# Altium integrated library FPGA Generic.IntLib: 1651 symbols (part 14 of 20)
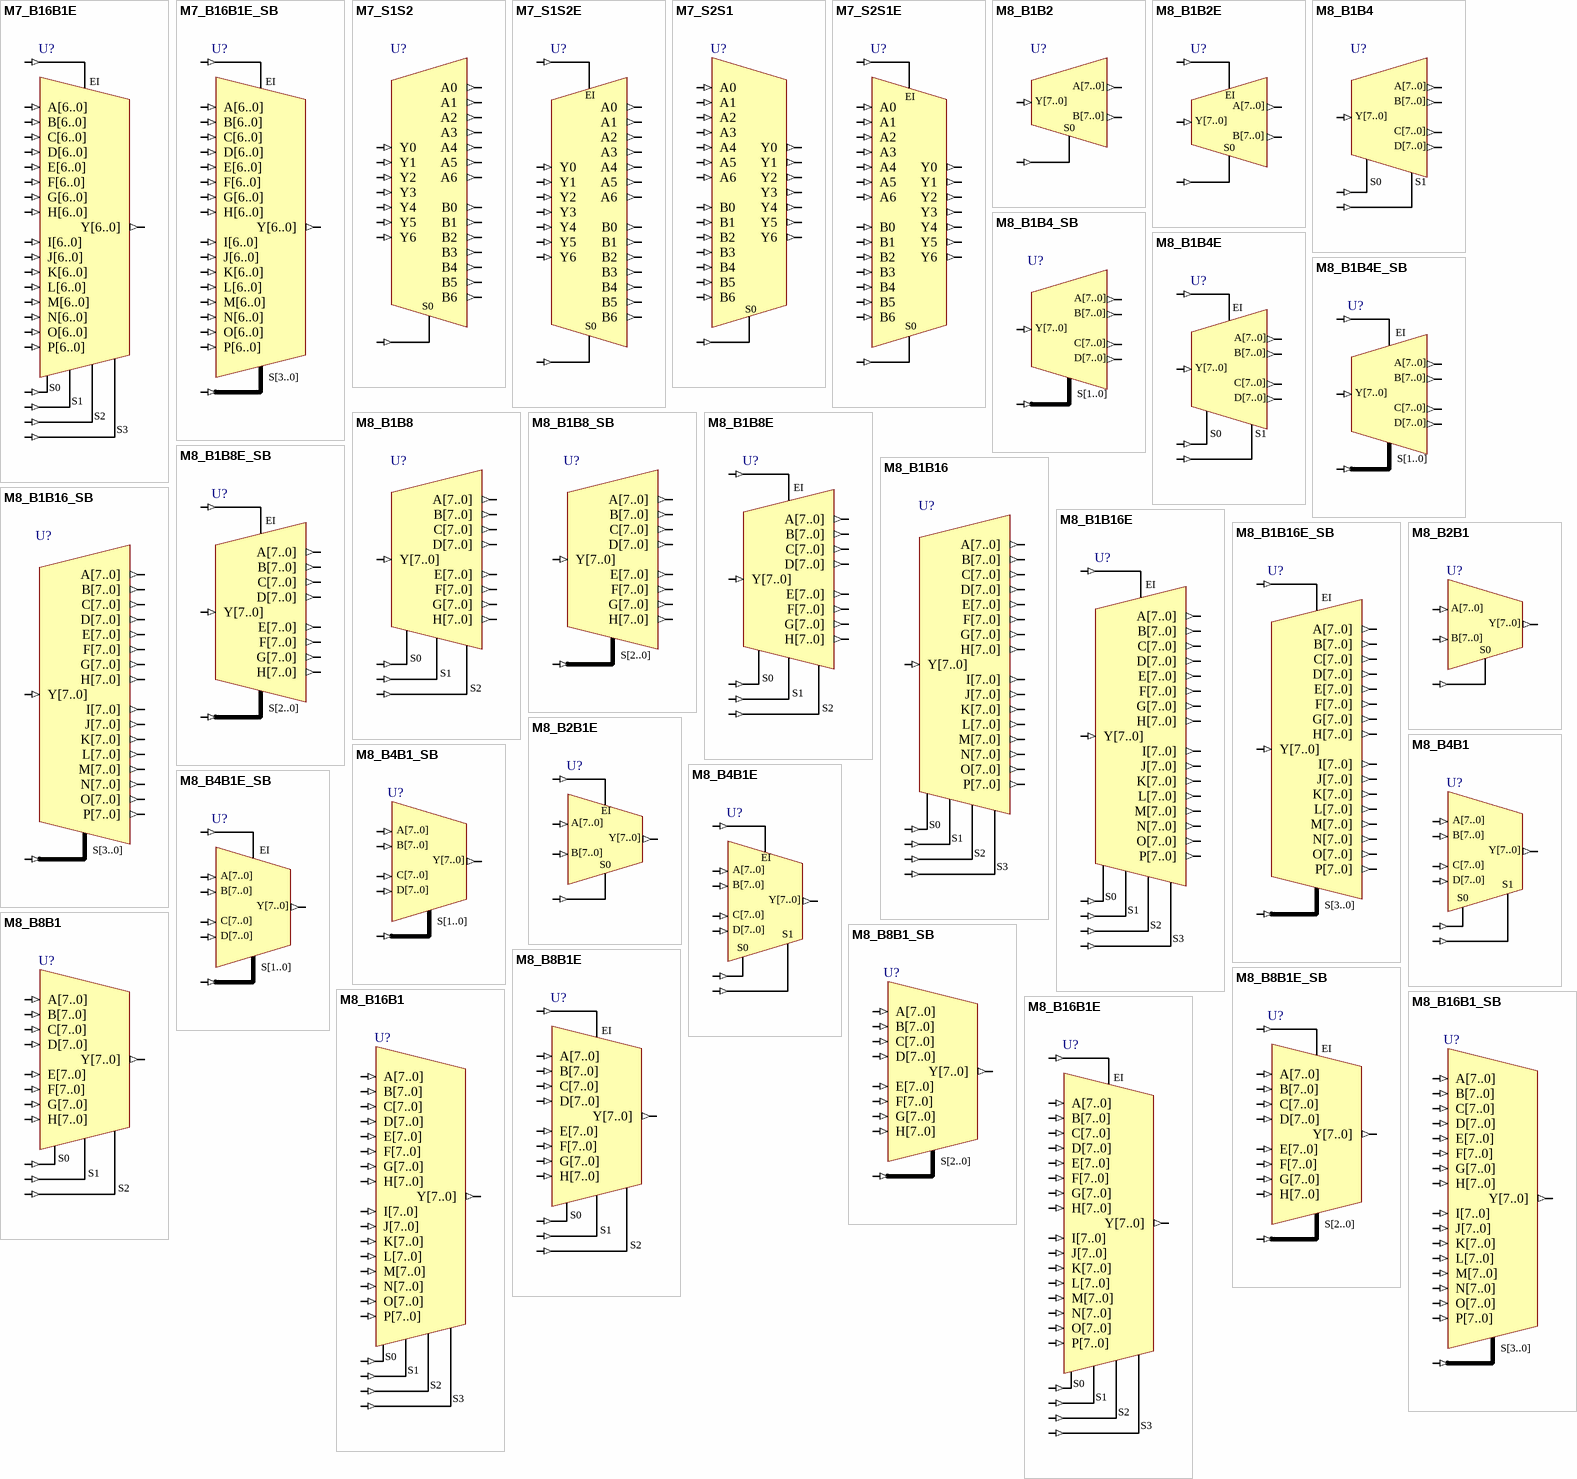
[diagram p56: symbols M7_B16B1E to M8_B16B1E]

## M8_B1B2E
designator U?
1x8-Bit Bus to 2x8-Bit Bus Multiplexer (Demultiplex)  With Enable; SubClass: B1Bn; Enable: High; PortSize: 8; PortStyle: Bus Version; ArchiveName: GENERIC; VHDLIB_SIM: GENERIC_LIB; Published: 29-Jan-2004; Publisher: Altium Limited; LastRevisionNo: 1.00.00; HelpURL: CR0118 FPGA Generic Library Guide.pdf#page=331; ComponentLink1URL: CR0137 FPGA Multiplexer Resource Usage.pdf#page=289; ComponentLink1Description: Core &Resource Usage; FunctionalClass: Multiplexer
pins: A[7..0] (out), B[7..0] (out), EI (in), S0 (in), Y[7..0] (in)

## M8_B1B4
designator U?
1x8-Bit Bus to 4x8-Bit Bus Multiplexer (Demultiplex); SubClass: B1Bn; PortSize: 8; PortStyle: Bus Version; ArchiveName: GENERIC; VHDLIB_SIM: GENERIC_LIB; Published: 29-Jan-2004; Publisher: Altium Limited; LastRevisionNo: 1.00.00; HelpURL: CR0118 FPGA Generic Library Guide.pdf#page=335; ComponentLink1URL: CR0137 FPGA Multiplexer Resource Usage.pdf#page=290; ComponentLink1Description: Core &Resource Usage; FunctionalClass: Multiplexer
pins: A[7..0] (out), B[7..0] (out), C[7..0] (out), D[7..0] (out), S0 (in), S1 (in), Y[7..0] (in)

## M8_B1B4_SB
designator U?
1x8-Bit Bus to 4x8-Bit Bus Multiplexer (Demultiplex) With Bus Version Select; SubClass: B1Bn; BusBusSelect: True; PortSize: 8; ArchiveName: GENERIC; VHDLIB_SIM: GENERIC_LIB; Published: 31-May-2004; Publisher: Altium Limited; LastRevisionNo: 1.00.00; HelpURL: CR0118 FPGA Generic Library Guide.pdf#page=335; ComponentLink1URL: CR0137 FPGA Multiplexer Resource Usage.pdf#page=291; ComponentLink1Description: Core &Resource Usage; FunctionalClass: Multiplexer; PortStyle: Bus Version
pins: A[7..0] (out), B[7..0] (out), C[7..0] (out), D[7..0] (out), S[1..0] (in), Y[7..0] (in)

## M8_B1B4E
designator U?
1x8-Bit Bus to 4x8-Bit Bus Multiplexer (Demultiplex)  With Enable; SubClass: B1Bn; Enable: High; PortSize: 8; PortStyle: Bus Version; ArchiveName: GENERIC; VHDLIB_SIM: GENERIC_LIB; Published: 29-Jan-2004; Publisher: Altium Limited; LastRevisionNo: 1.00.00; HelpURL: CR0118 FPGA Generic Library Guide.pdf#page=339; ComponentLink1URL: CR0137 FPGA Multiplexer Resource Usage.pdf#page=292; ComponentLink1Description: Core &Resource Usage; FunctionalClass: Multiplexer
pins: A[7..0] (out), B[7..0] (out), C[7..0] (out), D[7..0] (out), EI (in), S0 (in), S1 (in), Y[7..0] (in)

## M8_B1B4E_SB
designator U?
1x8-Bit Bus to 4x8-Bit Bus Multiplexer (Demultiplex)  With Enable With Bus Version Select; SubClass: B1Bn; Enable: High; BusBusSelect: True; PortSize: 8; ArchiveName: GENERIC; VHDLIB_SIM: GENERIC_LIB; Published: 31-May-2004; Publisher: Altium Limited; LastRevisionNo: 1.00.00; HelpURL: CR0118 FPGA Generic Library Guide.pdf#page=339; ComponentLink1URL: CR0137 FPGA Multiplexer Resource Usage.pdf#page=293; ComponentLink1Description: Core &Resource Usage; FunctionalClass: Multiplexer; PortStyle: Bus Version
pins: A[7..0] (out), B[7..0] (out), C[7..0] (out), D[7..0] (out), EI (in), S[1..0] (in), Y[7..0] (in)

## M8_B1B8
designator U?
1x8-Bit Bus to 8x8-Bit Bus Multiplexer (Demultiplex); SubClass: B1Bn; PortSize: 8; PortStyle: Bus Version; ArchiveName: GENERIC; VHDLIB_SIM: GENERIC_LIB; Published: 29-Jan-2004; Publisher: Altium Limited; LastRevisionNo: 1.00.00; HelpURL: CR0118 FPGA Generic Library Guide.pdf#page=345; ComponentLink1URL: CR0137 FPGA Multiplexer Resource Usage.pdf#page=294; ComponentLink1Description: Core &Resource Usage; FunctionalClass: Multiplexer
pins: A[7..0] (out), B[7..0] (out), C[7..0] (out), D[7..0] (out), E[7..0] (out), F[7..0] (out), G[7..0] (out), H[7..0] (out), S0 (in), S1 (in), S2 (in), Y[7..0] (in)

## M8_B1B8_SB
designator U?
1x8-Bit Bus to 8x8-Bit Bus Multiplexer (Demultiplex) With Bus Version Select; SubClass: B1Bn; BusBusSelect: True; PortSize: 8; ArchiveName: GENERIC; VHDLIB_SIM: GENERIC_LIB; Published: 31-May-2004; Publisher: Altium Limited; LastRevisionNo: 1.00.00; HelpURL: CR0118 FPGA Generic Library Guide.pdf#page=345; ComponentLink1URL: CR0137 FPGA Multiplexer Resource Usage.pdf#page=295; ComponentLink1Description: Core &Resource Usage; FunctionalClass: Multiplexer; PortStyle: Bus Version
pins: A[7..0] (out), B[7..0] (out), C[7..0] (out), D[7..0] (out), E[7..0] (out), F[7..0] (out), G[7..0] (out), H[7..0] (out), S[2..0] (in), Y[7..0] (in)

## M8_B1B8E
designator U?
1x8-Bit Bus to 8x8-Bit Bus Multiplexer (Demultiplex)  With Enable; SubClass: B1Bn; Enable: High; PortSize: 8; PortStyle: Bus Version; ArchiveName: GENERIC; VHDLIB_SIM: GENERIC_LIB; Published: 29-Jan-2004; Publisher: Altium Limited; LastRevisionNo: 1.00.00; HelpURL: CR0118 FPGA Generic Library Guide.pdf#page=350; ComponentLink1URL: CR0137 FPGA Multiplexer Resource Usage.pdf#page=296; ComponentLink1Description: Core &Resource Usage; FunctionalClass: Multiplexer
pins: A[7..0] (out), B[7..0] (out), C[7..0] (out), D[7..0] (out), E[7..0] (out), EI (in), F[7..0] (out), G[7..0] (out), H[7..0] (out), S0 (in), S1 (in), S2 (in), Y[7..0] (in)

## M8_B1B8E_SB
designator U?
1x8-Bit Bus to 8x8-Bit Bus Multiplexer (Demultiplex)  With Enable With Bus Version Select; SubClass: B1Bn; Enable: High; BusBusSelect: True; PortSize: 8; ArchiveName: GENERIC; VHDLIB_SIM: GENERIC_LIB; Published: 31-May-2004; Publisher: Altium Limited; LastRevisionNo: 1.00.00; HelpURL: CR0118 FPGA Generic Library Guide.pdf#page=350; ComponentLink1URL: CR0137 FPGA Multiplexer Resource Usage.pdf#page=297; ComponentLink1Description: Core &Resource Usage; FunctionalClass: Multiplexer; PortStyle: Bus Version
pins: A[7..0] (out), B[7..0] (out), C[7..0] (out), D[7..0] (out), E[7..0] (out), EI (in), F[7..0] (out), G[7..0] (out), H[7..0] (out), S[2..0] (in), Y[7..0] (in)

## M8_B1B16
designator U?
1x8-Bit Bus to 16x8-Bit Bus Multiplexer (Demultiplex); SubClass: B1Bn; PortSize: 8; PortStyle: Bus Version; ArchiveName: GENERIC; VHDLIB_SIM: GENERIC_LIB; Published: 29-Jan-2004; Publisher: Altium Limited; LastRevisionNo: 1.00.00; HelpURL: CR0118 FPGA Generic Library Guide.pdf#page=355; ComponentLink1URL: CR0137 FPGA Multiplexer Resource Usage.pdf#page=298; ComponentLink1Description: Core &Resource Usage; FunctionalClass: Multiplexer
pins: A[7..0] (out), B[7..0] (out), C[7..0] (out), D[7..0] (out), E[7..0] (out), F[7..0] (out), G[7..0] (out), H[7..0] (out), I[7..0] (out), J[7..0] (out), K[7..0] (out), L[7..0] (out), M[7..0] (out), N[7..0] (out), O[7..0] (out), P[7..0] (out), S0 (in), S1 (in), S2 (in), S3 (in), Y[7..0] (in)

## M8_B1B16_SB
designator U?
1x8-Bit Bus to 16x8-Bit Bus Multiplexer (Demultiplex) With Bus Version Select; SubClass: B1Bn; BusBusSelect: True; PortSize: 8; ArchiveName: GENERIC; VHDLIB_SIM: GENERIC_LIB; Published: 29-Jan-2004; Publisher: Altium Limited; LastRevisionNo: 1.00.00; HelpURL: CR0118 FPGA Generic Library Guide.pdf#page=355; ComponentLink1URL: CR0137 FPGA Multiplexer Resource Usage.pdf#page=299; ComponentLink1Description: Core &Resource Usage; FunctionalClass: Multiplexer; PortStyle: Bus Version
pins: A[7..0] (out), B[7..0] (out), C[7..0] (out), D[7..0] (out), E[7..0] (out), F[7..0] (out), G[7..0] (out), H[7..0] (out), I[7..0] (out), J[7..0] (out), K[7..0] (out), L[7..0] (out), M[7..0] (out), N[7..0] (out), O[7..0] (out), P[7..0] (out), S[3..0] (in), Y[7..0] (in)

## M8_B1B16E
designator U?
1x8-Bit Bus to 16x8-Bit Bus Multiplexer (Demultiplex)  With Enable; SubClass: B1Bn; Enable: High; PortSize: 8; PortStyle: Bus Version; ArchiveName: GENERIC; VHDLIB_SIM: GENERIC_LIB; Published: 29-Jan-2004; Publisher: Altium Limited; LastRevisionNo: 1.00.00; HelpURL: CR0118 FPGA Generic Library Guide.pdf#page=360; ComponentLink1URL: CR0137 FPGA Multiplexer Resource Usage.pdf#page=300; ComponentLink1Description: Core &Resource Usage; FunctionalClass: Multiplexer
pins: A[7..0] (out), B[7..0] (out), C[7..0] (out), D[7..0] (out), E[7..0] (out), EI (in), F[7..0] (out), G[7..0] (out), H[7..0] (out), I[7..0] (out), J[7..0] (out), K[7..0] (out), L[7..0] (out), M[7..0] (out), N[7..0] (out), O[7..0] (out), P[7..0] (out), S0 (in), S1 (in), S2 (in), S3 (in), Y[7..0] (in)

## M8_B1B16E_SB
designator U?
1x8-Bit Bus to 16x8-Bit Bus Multiplexer (Demultiplex) With Enable and Bus Version Select; SubClass: B1Bn; Enable: High; BusBusSelect: True; PortSize: 8; ArchiveName: GENERIC; VHDLIB_SIM: GENERIC_LIB; Published: 29-Jan-2004; Publisher: Altium Limited; LastRevisionNo: 1.00.00; HelpURL: CR0118 FPGA Generic Library Guide.pdf#page=360; ComponentLink1URL: CR0137 FPGA Multiplexer Resource Usage.pdf#page=301; ComponentLink1Description: Core &Resource Usage; FunctionalClass: Multiplexer; PortStyle: Bus Version
pins: A[7..0] (out), B[7..0] (out), C[7..0] (out), D[7..0] (out), E[7..0] (out), EI (in), F[7..0] (out), G[7..0] (out), H[7..0] (out), I[7..0] (out), J[7..0] (out), K[7..0] (out), L[7..0] (out), M[7..0] (out), N[7..0] (out), O[7..0] (out), P[7..0] (out), S[3..0] (in), Y[7..0] (in)

## M8_B2B1
designator U?
2x8-Bit Bus to 1x8-Bit Bus Multiplexer; SubClass: BnB1; PortSize: 8; PortStyle: Bus Version; ArchiveName: GENERIC; VHDLIB_SIM: GENERIC_LIB; Published: 29-Jan-2004; Publisher: Altium Limited; LastRevisionNo: 1.00.00; HelpURL: CR0118 FPGA Generic Library Guide.pdf#page=364; ComponentLink1URL: CR0137 FPGA Multiplexer Resource Usage.pdf#page=302; ComponentLink1Description: Core &Resource Usage; FunctionalClass: Multiplexer
pins: A[7..0] (in), B[7..0] (in), S0 (in), Y[7..0] (out)

## M8_B2B1E
designator U?
2x8-Bit Bus to 1x8-Bit Bus Multiplexer With Enable; SubClass: BnB1; Enable: High; PortSize: 8; PortStyle: Bus Version; ArchiveName: GENERIC; VHDLIB_SIM: GENERIC_LIB; Published: 29-Jan-2004; Publisher: Altium Limited; LastRevisionNo: 1.00.00; HelpURL: CR0118 FPGA Generic Library Guide.pdf#page=366; ComponentLink1URL: CR0137 FPGA Multiplexer Resource Usage.pdf#page=303; ComponentLink1Description: Core &Resource Usage; FunctionalClass: Multiplexer
pins: A[7..0] (in), B[7..0] (in), EI (in), S0 (in), Y[7..0] (out)

## M8_B4B1
designator U?
4x8-Bit Bus to 1x8-Bit Bus Multiplexer; SubClass: BnB1; PortSize: 8; PortStyle: Bus Version; ArchiveName: GENERIC; VHDLIB_SIM: GENERIC_LIB; Published: 29-Jan-2004; Publisher: Altium Limited; LastRevisionNo: 1.00.00; HelpURL: CR0118 FPGA Generic Library Guide.pdf#page=370; ComponentLink1URL: CR0137 FPGA Multiplexer Resource Usage.pdf#page=304; ComponentLink1Description: Core &Resource Usage; FunctionalClass: Multiplexer
pins: A[7..0] (in), B[7..0] (in), C[7..0] (in), D[7..0] (in), S0 (in), S1 (in), Y[7..0] (out)

## M8_B4B1_SB
designator U?
4x8-Bit Bus to 1x8-Bit Bus Multiplexer With Bus Version Select; SubClass: BnB1; BusBusSelect: True; PortSize: 8; ArchiveName: GENERIC; VHDLIB_SIM: GENERIC_LIB; Published: 31-May-2004; Publisher: Altium Limited; LastRevisionNo: 1.00.00; HelpURL: CR0118 FPGA Generic Library Guide.pdf#page=370; ComponentLink1URL: CR0137 FPGA Multiplexer Resource Usage.pdf#page=305; ComponentLink1Description: Core &Resource Usage; FunctionalClass: Multiplexer; PortStyle: Bus Version
pins: A[7..0] (in), B[7..0] (in), C[7..0] (in), D[7..0] (in), S[1..0] (in), Y[7..0] (out)

## M8_B4B1E
designator U?
4x8-Bit Bus to 1x8-Bit Bus Multiplexer With Enable; SubClass: BnB1; Enable: High; PortSize: 8; PortStyle: Bus Version; ArchiveName: GENERIC; VHDLIB_SIM: GENERIC_LIB; Published: 29-Jan-2004; Publisher: Altium Limited; LastRevisionNo: 1.00.00; HelpURL: CR0118 FPGA Generic Library Guide.pdf#page=374; ComponentLink1URL: CR0137 FPGA Multiplexer Resource Usage.pdf#page=306; ComponentLink1Description: Core &Resource Usage; FunctionalClass: Multiplexer
pins: A[7..0] (in), B[7..0] (in), C[7..0] (in), D[7..0] (in), EI (in), S0 (in), S1 (in), Y[7..0] (out)

## M8_B4B1E_SB
designator U?
4x8-Bit Bus to 1x8-Bit Bus Multiplexer With Enable With Bus Version Select; SubClass: BnB1; Enable: High; BusBusSelect: True; PortSize: 8; ArchiveName: GENERIC; VHDLIB_SIM: GENERIC_LIB; Published: 31-May-2004; Publisher: Altium Limited; LastRevisionNo: 1.00.00; HelpURL: CR0118 FPGA Generic Library Guide.pdf#page=374; ComponentLink1URL: CR0137 FPGA Multiplexer Resource Usage.pdf#page=307; ComponentLink1Description: Core &Resource Usage; FunctionalClass: Multiplexer; PortStyle: Bus Version
pins: A[7..0] (in), B[7..0] (in), C[7..0] (in), D[7..0] (in), EI (in), S[1..0] (in), Y[7..0] (out)

## M8_B8B1
designator U?
8x8-Bit Bus to 1x8-Bit Bus Multiplexer; SubClass: BnB1; PortSize: 8; PortStyle: Bus Version; ArchiveName: GENERIC; VHDLIB_SIM: GENERIC_LIB; Published: 29-Jan-2004; Publisher: Altium Limited; LastRevisionNo: 1.00.00; HelpURL: CR0118 FPGA Generic Library Guide.pdf#page=379; ComponentLink1URL: CR0137 FPGA Multiplexer Resource Usage.pdf#page=308; ComponentLink1Description: Core &Resource Usage; FunctionalClass: Multiplexer
pins: A[7..0] (in), B[7..0] (in), C[7..0] (in), D[7..0] (in), E[7..0] (in), F[7..0] (in), G[7..0] (in), H[7..0] (in), S0 (in), S1 (in), S2 (in), Y[7..0] (out)

## M8_B8B1_SB
designator U?
8x8-Bit Bus to 1x8-Bit Bus Multiplexer With Bus Version Select; SubClass: BnB1; BusBusSelect: True; PortSize: 8; ArchiveName: GENERIC; VHDLIB_SIM: GENERIC_LIB; Published: 31-May-2004; Publisher: Altium Limited; LastRevisionNo: 1.00.00; HelpURL: CR0118 FPGA Generic Library Guide.pdf#page=379; ComponentLink1URL: CR0137 FPGA Multiplexer Resource Usage.pdf#page=309; ComponentLink1Description: Core &Resource Usage; FunctionalClass: Multiplexer; PortStyle: Bus Version
pins: A[7..0] (in), B[7..0] (in), C[7..0] (in), D[7..0] (in), E[7..0] (in), F[7..0] (in), G[7..0] (in), H[7..0] (in), S[2..0] (in), Y[7..0] (out)

## M8_B8B1E
designator U?
8x8-Bit Bus to 1x8-Bit Bus Multiplexer With Enable; SubClass: BnB1; Enable: High; PortSize: 8; PortStyle: Bus Version; ArchiveName: GENERIC; VHDLIB_SIM: GENERIC_LIB; Published: 29-Jan-2004; Publisher: Altium Limited; LastRevisionNo: 1.00.00; HelpURL: CR0118 FPGA Generic Library Guide.pdf#page=383; ComponentLink1URL: CR0137 FPGA Multiplexer Resource Usage.pdf#page=310; ComponentLink1Description: Core &Resource Usage; FunctionalClass: Multiplexer
pins: A[7..0] (in), B[7..0] (in), C[7..0] (in), D[7..0] (in), E[7..0] (in), EI (in), F[7..0] (in), G[7..0] (in), H[7..0] (in), S0 (in), S1 (in), S2 (in), Y[7..0] (out)

## M8_B8B1E_SB
designator U?
8x8-Bit Bus to 1x8-Bit Bus Multiplexer With Enable With Bus Version Select; SubClass: BnB1; Enable: High; BusBusSelect: True; PortSize: 8; ArchiveName: GENERIC; VHDLIB_SIM: GENERIC_LIB; Published: 31-May-2004; Publisher: Altium Limited; LastRevisionNo: 1.00.00; HelpURL: CR0118 FPGA Generic Library Guide.pdf#page=383; ComponentLink1URL: CR0137 FPGA Multiplexer Resource Usage.pdf#page=311; ComponentLink1Description: Core &Resource Usage; FunctionalClass: Multiplexer; PortStyle: Bus Version
pins: A[7..0] (in), B[7..0] (in), C[7..0] (in), D[7..0] (in), E[7..0] (in), EI (in), F[7..0] (in), G[7..0] (in), H[7..0] (in), S[2..0] (in), Y[7..0] (out)

## M8_B16B1
designator U?
16x8-Bit Bus to 1x8-Bit Bus Multiplexer; SubClass: BnB1; PortSize: 8; PortStyle: Bus Version; ArchiveName: GENERIC; VHDLIB_SIM: GENERIC_LIB; Published: 29-Jan-2004; Publisher: Altium Limited; LastRevisionNo: 1.00.00; HelpURL: CR0118 FPGA Generic Library Guide.pdf#page=388; ComponentLink1URL: CR0137 FPGA Multiplexer Resource Usage.pdf#page=312; ComponentLink1Description: Core &Resource Usage; FunctionalClass: Multiplexer
pins: A[7..0] (in), B[7..0] (in), C[7..0] (in), D[7..0] (in), E[7..0] (in), F[7..0] (in), G[7..0] (in), H[7..0] (in), I[7..0] (in), J[7..0] (in), K[7..0] (in), L[7..0] (in), M[7..0] (in), N[7..0] (in), O[7..0] (in), P[7..0] (in), S0 (in), S1 (in), S2 (in), S3 (in), Y[7..0] (out)

## M8_B16B1_SB
designator U?
16x8-Bit Bus to 1x8-Bit Bus Multiplexer With Bus Version Select; SubClass: BnB1; BusBusSelect: True; PortSize: 8; ArchiveName: GENERIC; VHDLIB_SIM: GENERIC_LIB; Published: 29-Jan-2004; Publisher: Altium Limited; LastRevisionNo: 1.00.00; HelpURL: CR0118 FPGA Generic Library Guide.pdf#page=388; ComponentLink1URL: CR0137 FPGA Multiplexer Resource Usage.pdf#page=313; ComponentLink1Description: Core &Resource Usage; FunctionalClass: Multiplexer; PortStyle: Bus Version
pins: A[7..0] (in), B[7..0] (in), C[7..0] (in), D[7..0] (in), E[7..0] (in), F[7..0] (in), G[7..0] (in), H[7..0] (in), I[7..0] (in), J[7..0] (in), K[7..0] (in), L[7..0] (in), M[7..0] (in), N[7..0] (in), O[7..0] (in), P[7..0] (in), S[3..0] (in), Y[7..0] (out)

## M8_B16B1E
designator U?
16x8-Bit Bus to 1x8-Bit Bus Multiplexer With Enable; SubClass: BnB1; Enable: High; PortSize: 8; PortStyle: Bus Version; ArchiveName: GENERIC; VHDLIB_SIM: GENERIC_LIB; Published: 29-Jan-2004; Publisher: Altium Limited; LastRevisionNo: 1.00.00; HelpURL: CR0118 FPGA Generic Library Guide.pdf#page=393; ComponentLink1URL: CR0137 FPGA Multiplexer Resource Usage.pdf#page=314; ComponentLink1Description: Core &Resource Usage; FunctionalClass: Multiplexer
pins: A[7..0] (in), B[7..0] (in), C[7..0] (in), D[7..0] (in), E[7..0] (in), EI (in), F[7..0] (in), G[7..0] (in), H[7..0] (in), I[7..0] (in), J[7..0] (in), K[7..0] (in), L[7..0] (in), M[7..0] (in), N[7..0] (in), O[7..0] (in), P[7..0] (in), S0 (in), S1 (in), S2 (in), S3 (in), Y[7..0] (out)

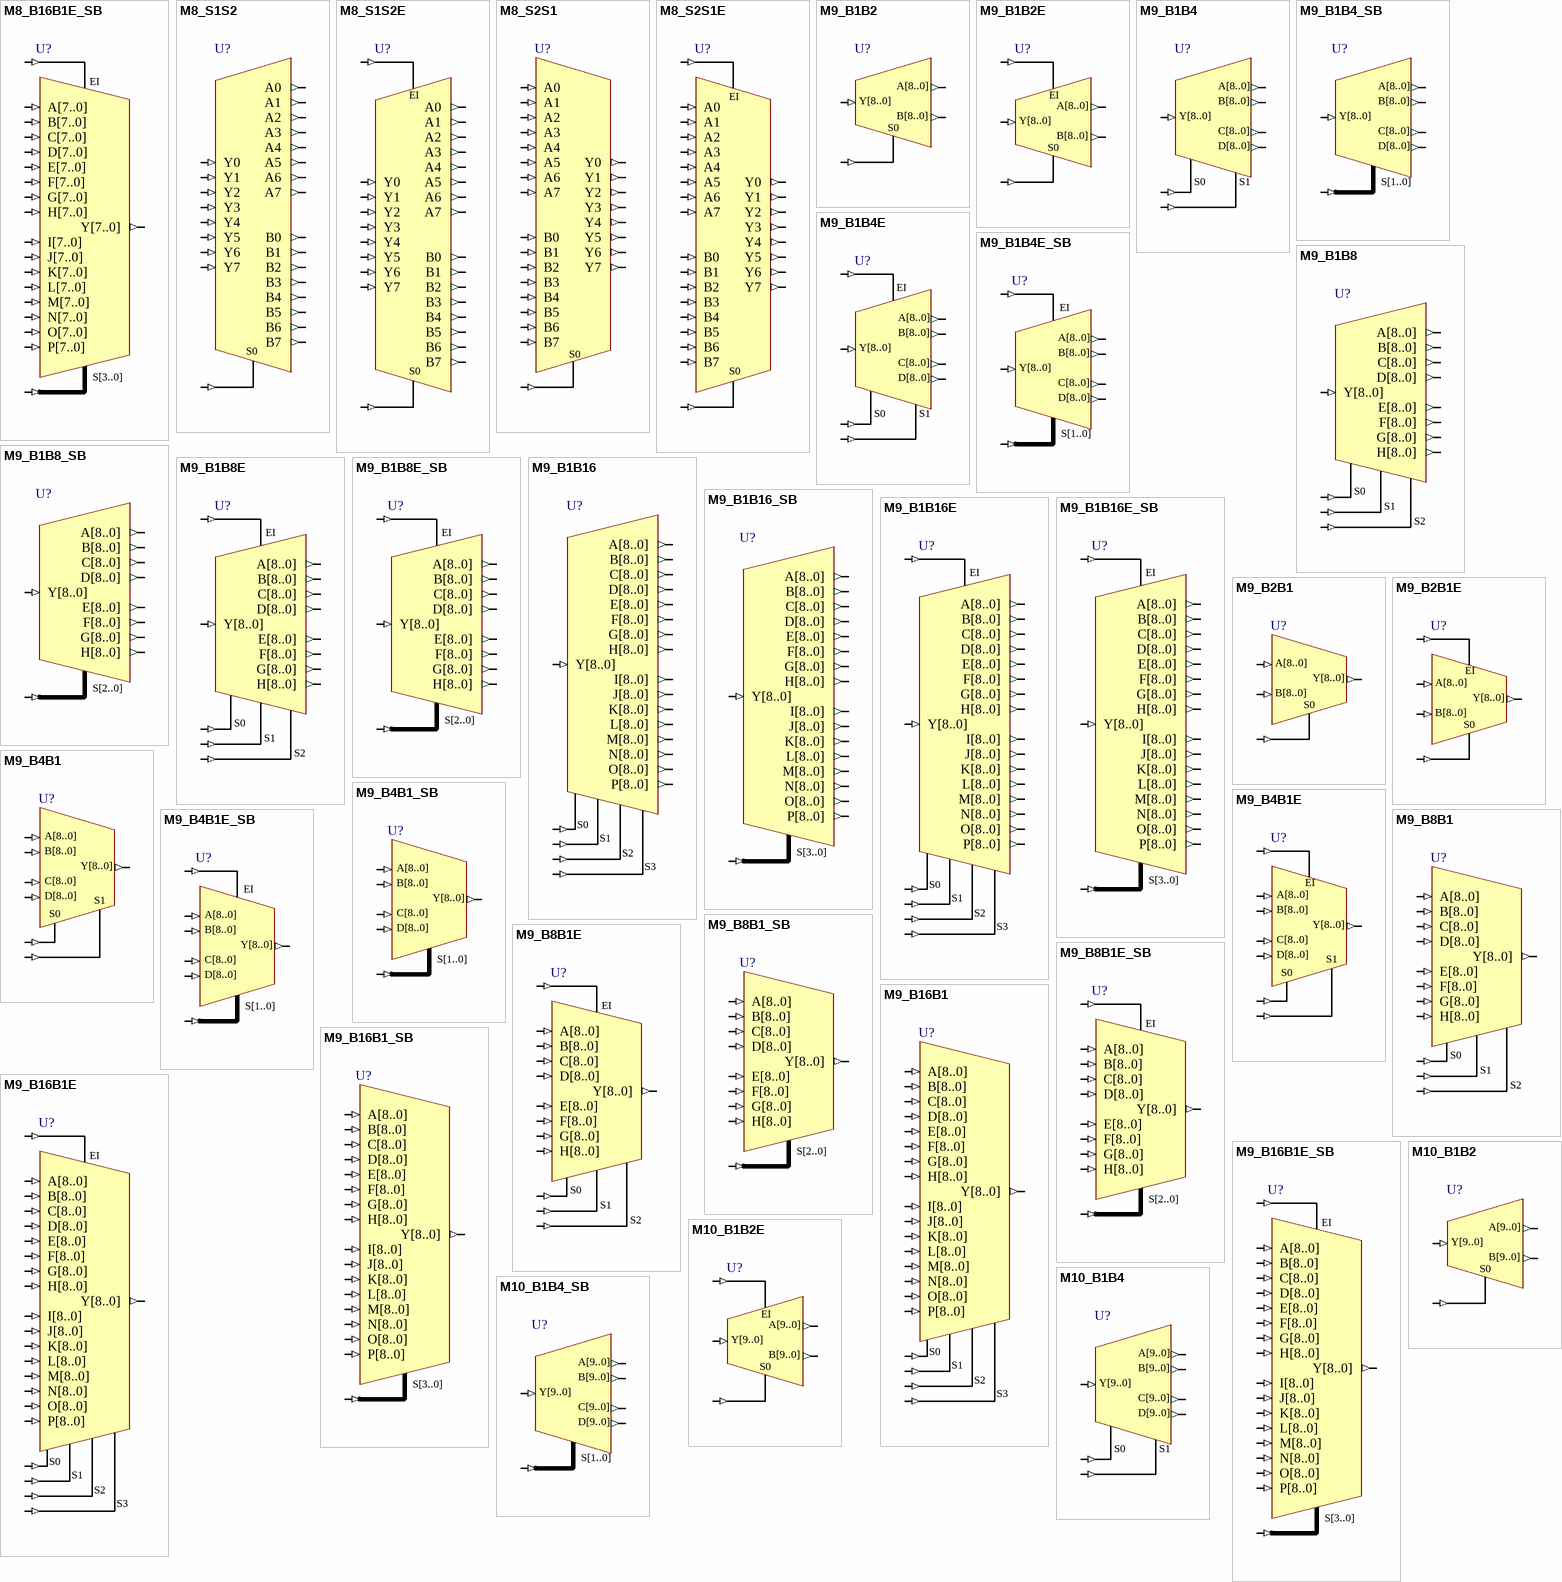
[diagram p29: symbols M8_B16B1E_SB to M10_B1B4_SB]

## M8_B16B1E_SB
designator U?
16x8-Bit Bus to 1x8-Bit Bus Multiplexer With Enable and Bus Version Select; SubClass: BnB1; Enable: High; BusBusSelect: True; PortSize: 8; ArchiveName: GENERIC; VHDLIB_SIM: GENERIC_LIB; Published: 29-Jan-2004; Publisher: Altium Limited; LastRevisionNo: 1.00.00; HelpURL: CR0118 FPGA Generic Library Guide.pdf#page=393; ComponentLink1URL: CR0137 FPGA Multiplexer Resource Usage.pdf#page=315; ComponentLink1Description: Core &Resource Usage; FunctionalClass: Multiplexer; PortStyle: Bus Version
pins: A[7..0] (in), B[7..0] (in), C[7..0] (in), D[7..0] (in), E[7..0] (in), EI (in), F[7..0] (in), G[7..0] (in), H[7..0] (in), I[7..0] (in), J[7..0] (in), K[7..0] (in), L[7..0] (in), M[7..0] (in), N[7..0] (in), O[7..0] (in), P[7..0] (in), S[3..0] (in), Y[7..0] (out)

## M8_S1S2
designator U?
1x8-Single Wire to 2x8-Single Wire Multiplexer (Demultiplex); SubClass: S1Sn; PortSize: 8; PortStyle: Single Pin Version; ArchiveName: GENERIC; VHDLIB_SIM: GENERIC_LIB; Published: 29-Jan-2004; Publisher: Altium Limited; LastRevisionNo: 1.00.00; HelpURL: CR0118 FPGA Generic Library Guide.pdf#page=328; ComponentLink1URL: CR0137 FPGA Multiplexer Resource Usage.pdf#page=316; ComponentLink1Description: Core &Resource Usage; FunctionalClass: Multiplexer
pins: A0 (out), A1 (out), A2 (out), A3 (out), A4 (out), A5 (out), A6 (out), A7 (out), B0 (out), B1 (out), B2 (out), B3 (out), B4 (out), B5 (out), B6 (out), B7 (out), S0 (in), Y0 (in), Y1 (in), Y2 (in), Y3 (in), Y4 (in), Y5 (in), Y6 (in), Y7 (in)

## M8_S1S2E
designator U?
1x8-Single Wire to 2x8-Single Wire Multiplexer (Demultiplex)  With Enable; SubClass: S1Sn; Enable: High; PortSize: 8; PortStyle: Single Pin Version; ArchiveName: GENERIC; VHDLIB_SIM: GENERIC_LIB; Published: 29-Jan-2004; Publisher: Altium Limited; LastRevisionNo: 1.00.00; HelpURL: CR0118 FPGA Generic Library Guide.pdf#page=331; ComponentLink1URL: CR0137 FPGA Multiplexer Resource Usage.pdf#page=317; ComponentLink1Description: Core &Resource Usage; FunctionalClass: Multiplexer
pins: A0 (out), A1 (out), A2 (out), A3 (out), A4 (out), A5 (out), A6 (out), A7 (out), B0 (out), B1 (out), B2 (out), B3 (out), B4 (out), B5 (out), B6 (out), B7 (out), EI (in), S0 (in), Y0 (in), Y1 (in), Y2 (in), Y3 (in), Y4 (in), Y5 (in), Y6 (in), Y7 (in)

## M8_S2S1
designator U?
2x8-Single Wire to 1x8-Single Wire Multiplexer; SubClass: SnS1; PortSize: 8; PortStyle: Single Pin Version; ArchiveName: GENERIC; VHDLIB_SIM: GENERIC_LIB; Published: 29-Jan-2004; Publisher: Altium Limited; LastRevisionNo: 1.00.00; HelpURL: CR0118 FPGA Generic Library Guide.pdf#page=364; ComponentLink1URL: CR0137 FPGA Multiplexer Resource Usage.pdf#page=318; ComponentLink1Description: Core &Resource Usage; FunctionalClass: Multiplexer
pins: A0 (in), A1 (in), A2 (in), A3 (in), A4 (in), A5 (in), A6 (in), A7 (in), B0 (in), B1 (in), B2 (in), B3 (in), B4 (in), B5 (in), B6 (in), B7 (in), S0 (in), Y0 (out), Y1 (out), Y2 (out), Y3 (out), Y4 (out), Y5 (out), Y6 (out), Y7 (out)

## M8_S2S1E
designator U?
2x8-Single Wire to 1x8-Single Wire Multiplexer With Enable; SubClass: SnS1; Enable: High; PortSize: 8; PortStyle: Single Pin Version; ArchiveName: GENERIC; VHDLIB_SIM: GENERIC_LIB; Published: 29-Jan-2004; Publisher: Altium Limited; LastRevisionNo: 1.00.00; HelpURL: CR0118 FPGA Generic Library Guide.pdf#page=366; ComponentLink1URL: CR0137 FPGA Multiplexer Resource Usage.pdf#page=319; ComponentLink1Description: Core &Resource Usage; FunctionalClass: Multiplexer
pins: A0 (in), A1 (in), A2 (in), A3 (in), A4 (in), A5 (in), A6 (in), A7 (in), B0 (in), B1 (in), B2 (in), B3 (in), B4 (in), B5 (in), B6 (in), B7 (in), EI (in), S0 (in), Y0 (out), Y1 (out), Y2 (out), Y3 (out), Y4 (out), Y5 (out), Y6 (out), Y7 (out)

## M9_B1B2
designator U?
1x9-Bit Bus to 2x9-Bit Bus Multiplexer (Demultiplex); SubClass: B1Bn; PortSize: 9; PortStyle: Bus Version; ArchiveName: GENERIC; VHDLIB_SIM: GENERIC_LIB; Published: 29-Jan-2004; Publisher: Altium Limited; LastRevisionNo: 1.00.00; HelpURL: CR0118 FPGA Generic Library Guide.pdf#page=328; ComponentLink1URL: CR0137 FPGA Multiplexer Resource Usage.pdf#page=320; ComponentLink1Description: Core &Resource Usage; FunctionalClass: Multiplexer
pins: A[8..0] (out), B[8..0] (out), S0 (in), Y[8..0] (in)

## M9_B1B2E
designator U?
1x9-Bit Bus to 2x9-Bit Bus Multiplexer (Demultiplex) With Enable; SubClass: B1Bn; Enable: High; PortSize: 9; PortStyle: Bus Version; ArchiveName: GENERIC; VHDLIB_SIM: GENERIC_LIB; Published: 29-Jan-2004; Publisher: Altium Limited; LastRevisionNo: 1.00.00; HelpURL: CR0118 FPGA Generic Library Guide.pdf#page=331; ComponentLink1URL: CR0137 FPGA Multiplexer Resource Usage.pdf#page=321; ComponentLink1Description: Core &Resource Usage; FunctionalClass: Multiplexer
pins: A[8..0] (out), B[8..0] (out), EI (in), S0 (in), Y[8..0] (in)

## M9_B1B4
designator U?
1x9-Bit Bus to 4x9-Bit Bus Multiplexer (Demultiplex); SubClass: B1Bn; PortSize: 9; PortStyle: Bus Version; ArchiveName: GENERIC; VHDLIB_SIM: GENERIC_LIB; Published: 29-Jan-2004; Publisher: Altium Limited; LastRevisionNo: 1.00.00; HelpURL: CR0118 FPGA Generic Library Guide.pdf#page=335; ComponentLink1URL: CR0137 FPGA Multiplexer Resource Usage.pdf#page=322; ComponentLink1Description: Core &Resource Usage; FunctionalClass: Multiplexer
pins: A[8..0] (out), B[8..0] (out), C[8..0] (out), D[8..0] (out), S0 (in), S1 (in), Y[8..0] (in)

## M9_B1B4_SB
designator U?
1x9-Bit Bus to 4x9-Bit Bus Multiplexer (Demultiplex) With Bus Version Select; SubClass: B1Bn; BusBusSelect: True; PortSize: 9; ArchiveName: GENERIC; VHDLIB_SIM: GENERIC_LIB; Published: 31-May-2004; Publisher: Altium Limited; LastRevisionNo: 1.00.00; HelpURL: CR0118 FPGA Generic Library Guide.pdf#page=335; ComponentLink1URL: CR0137 FPGA Multiplexer Resource Usage.pdf#page=323; ComponentLink1Description: Core &Resource Usage; FunctionalClass: Multiplexer; PortStyle: Bus Version
pins: A[8..0] (out), B[8..0] (out), C[8..0] (out), D[8..0] (out), S[1..0] (in), Y[8..0] (in)

## M9_B1B4E
designator U?
1x9-Bit Bus to 4x9-Bit Bus Multiplexer (Demultiplex) With Enable; SubClass: B1Bn; Enable: High; PortSize: 9; PortStyle: Bus Version; ArchiveName: GENERIC; VHDLIB_SIM: GENERIC_LIB; Published: 29-Jan-2004; Publisher: Altium Limited; LastRevisionNo: 1.00.00; HelpURL: CR0118 FPGA Generic Library Guide.pdf#page=339; ComponentLink1URL: CR0137 FPGA Multiplexer Resource Usage.pdf#page=324; ComponentLink1Description: Core &Resource Usage; FunctionalClass: Multiplexer
pins: A[8..0] (out), B[8..0] (out), C[8..0] (out), D[8..0] (out), EI (in), S0 (in), S1 (in), Y[8..0] (in)

## M9_B1B4E_SB
designator U?
1x9-Bit Bus to 4x9-Bit Bus Multiplexer (Demultiplex) With Enable With Bus Version Select; SubClass: B1Bn; Enable: High; BusBusSelect: True; PortSize: 9; ArchiveName: GENERIC; VHDLIB_SIM: GENERIC_LIB; Published: 31-May-2004; Publisher: Altium Limited; LastRevisionNo: 1.00.00; HelpURL: CR0118 FPGA Generic Library Guide.pdf#page=339; ComponentLink1URL: CR0137 FPGA Multiplexer Resource Usage.pdf#page=325; ComponentLink1Description: Core &Resource Usage; FunctionalClass: Multiplexer; PortStyle: Bus Version
pins: A[8..0] (out), B[8..0] (out), C[8..0] (out), D[8..0] (out), EI (in), S[1..0] (in), Y[8..0] (in)

## M9_B1B8
designator U?
1x9-Bit Bus to 8x9-Bit Bus Multiplexer (Demultiplex); SubClass: B1Bn; PortSize: 9; PortStyle: Bus Version; ArchiveName: GENERIC; VHDLIB_SIM: GENERIC_LIB; Published: 29-Jan-2004; Publisher: Altium Limited; LastRevisionNo: 1.00.00; HelpURL: CR0118 FPGA Generic Library Guide.pdf#page=345; ComponentLink1URL: CR0137 FPGA Multiplexer Resource Usage.pdf#page=326; ComponentLink1Description: Core &Resource Usage; FunctionalClass: Multiplexer
pins: A[8..0] (out), B[8..0] (out), C[8..0] (out), D[8..0] (out), E[8..0] (out), F[8..0] (out), G[8..0] (out), H[8..0] (out), S0 (in), S1 (in), S2 (in), Y[8..0] (in)

## M9_B1B8_SB
designator U?
1x9-Bit Bus to 8x9-Bit Bus Multiplexer (Demultiplex) With Bus Version Select; SubClass: B1Bn; BusBusSelect: True; PortSize: 9; ArchiveName: GENERIC; VHDLIB_SIM: GENERIC_LIB; Published: 31-May-2004; Publisher: Altium Limited; LastRevisionNo: 1.00.00; HelpURL: CR0118 FPGA Generic Library Guide.pdf#page=345; ComponentLink1URL: CR0137 FPGA Multiplexer Resource Usage.pdf#page=327; ComponentLink1Description: Core &Resource Usage; FunctionalClass: Multiplexer; PortStyle: Bus Version
pins: A[8..0] (out), B[8..0] (out), C[8..0] (out), D[8..0] (out), E[8..0] (out), F[8..0] (out), G[8..0] (out), H[8..0] (out), S[2..0] (in), Y[8..0] (in)

## M9_B1B8E
designator U?
1x9-Bit Bus to 8x9-Bit Bus Multiplexer (Demultiplex) With Enable; SubClass: B1Bn; Enable: High; PortSize: 9; PortStyle: Bus Version; ArchiveName: GENERIC; VHDLIB_SIM: GENERIC_LIB; Published: 29-Jan-2004; Publisher: Altium Limited; LastRevisionNo: 1.00.00; HelpURL: CR0118 FPGA Generic Library Guide.pdf#page=350; ComponentLink1URL: CR0137 FPGA Multiplexer Resource Usage.pdf#page=328; ComponentLink1Description: Core &Resource Usage; FunctionalClass: Multiplexer
pins: A[8..0] (out), B[8..0] (out), C[8..0] (out), D[8..0] (out), E[8..0] (out), EI (in), F[8..0] (out), G[8..0] (out), H[8..0] (out), S0 (in), S1 (in), S2 (in), Y[8..0] (in)

## M9_B1B8E_SB
designator U?
1x9-Bit Bus to 8x9-Bit Bus Multiplexer (Demultiplex) With Enable With Bus Version Select; SubClass: B1Bn; Enable: High; BusBusSelect: True; PortSize: 9; ArchiveName: GENERIC; VHDLIB_SIM: GENERIC_LIB; Published: 31-May-2004; Publisher: Altium Limited; LastRevisionNo: 1.00.00; HelpURL: CR0118 FPGA Generic Library Guide.pdf#page=350; ComponentLink1URL: CR0137 FPGA Multiplexer Resource Usage.pdf#page=329; ComponentLink1Description: Core &Resource Usage; FunctionalClass: Multiplexer; PortStyle: Bus Version
pins: A[8..0] (out), B[8..0] (out), C[8..0] (out), D[8..0] (out), E[8..0] (out), EI (in), F[8..0] (out), G[8..0] (out), H[8..0] (out), S[2..0] (in), Y[8..0] (in)

## M9_B1B16
designator U?
1x9-Bit Bus to 16x9-Bit Bus Multiplexer (Demultiplex); SubClass: B1Bn; PortSize: 9; PortStyle: Bus Version; ArchiveName: GENERIC; VHDLIB_SIM: GENERIC_LIB; Published: 29-Jan-2004; Publisher: Altium Limited; LastRevisionNo: 1.00.00; HelpURL: CR0118 FPGA Generic Library Guide.pdf#page=355; ComponentLink1URL: CR0137 FPGA Multiplexer Resource Usage.pdf#page=330; ComponentLink1Description: Core &Resource Usage; FunctionalClass: Multiplexer
pins: A[8..0] (out), B[8..0] (out), C[8..0] (out), D[8..0] (out), E[8..0] (out), F[8..0] (out), G[8..0] (out), H[8..0] (out), I[8..0] (out), J[8..0] (out), K[8..0] (out), L[8..0] (out), M[8..0] (out), N[8..0] (out), O[8..0] (out), P[8..0] (out), S0 (in), S1 (in), S2 (in), S3 (in), Y[8..0] (in)

## M9_B1B16_SB
designator U?
1x9-Bit Bus to 16x9-Bit Bus Multiplexer (Demultiplex) With Bus Version Select; SubClass: B1Bn; BusBusSelect: True; PortSize: 9; ArchiveName: GENERIC; VHDLIB_SIM: GENERIC_LIB; Published: 29-Jan-2004; Publisher: Altium Limited; LastRevisionNo: 1.00.00; HelpURL: CR0118 FPGA Generic Library Guide.pdf#page=355; ComponentLink1URL: CR0137 FPGA Multiplexer Resource Usage.pdf#page=331; ComponentLink1Description: Core &Resource Usage; FunctionalClass: Multiplexer; PortStyle: Bus Version
pins: A[8..0] (out), B[8..0] (out), C[8..0] (out), D[8..0] (out), E[8..0] (out), F[8..0] (out), G[8..0] (out), H[8..0] (out), I[8..0] (out), J[8..0] (out), K[8..0] (out), L[8..0] (out), M[8..0] (out), N[8..0] (out), O[8..0] (out), P[8..0] (out), S[3..0] (in), Y[8..0] (in)

## M9_B1B16E
designator U?
1x9-Bit Bus to 16x9-Bit Bus Multiplexer (Demultiplex) With Enable; SubClass: B1Bn; Enable: High; PortSize: 9; PortStyle: Bus Version; ArchiveName: GENERIC; VHDLIB_SIM: GENERIC_LIB; Published: 29-Jan-2004; Publisher: Altium Limited; LastRevisionNo: 1.00.00; HelpURL: CR0118 FPGA Generic Library Guide.pdf#page=360; ComponentLink1URL: CR0137 FPGA Multiplexer Resource Usage.pdf#page=332; ComponentLink1Description: Core &Resource Usage; FunctionalClass: Multiplexer
pins: A[8..0] (out), B[8..0] (out), C[8..0] (out), D[8..0] (out), E[8..0] (out), EI (in), F[8..0] (out), G[8..0] (out), H[8..0] (out), I[8..0] (out), J[8..0] (out), K[8..0] (out), L[8..0] (out), M[8..0] (out), N[8..0] (out), O[8..0] (out), P[8..0] (out), S0 (in), S1 (in), S2 (in), S3 (in), Y[8..0] (in)

## M9_B1B16E_SB
designator U?
1x9-Bit Bus to 16x9-Bit Bus Multiplexer (Demultiplex) With Enable and Bus Version Select; SubClass: B1Bn; Enable: High; BusBusSelect: True; PortSize: 9; ArchiveName: GENERIC; VHDLIB_SIM: GENERIC_LIB; Published: 29-Jan-2004; Publisher: Altium Limited; LastRevisionNo: 1.00.00; HelpURL: CR0118 FPGA Generic Library Guide.pdf#page=355; ComponentLink1URL: CR0137 FPGA Multiplexer Resource Usage.pdf#page=333; ComponentLink1Description: Core &Resource Usage; FunctionalClass: Multiplexer; PortStyle: Bus Version
pins: A[8..0] (out), B[8..0] (out), C[8..0] (out), D[8..0] (out), E[8..0] (out), EI (in), F[8..0] (out), G[8..0] (out), H[8..0] (out), I[8..0] (out), J[8..0] (out), K[8..0] (out), L[8..0] (out), M[8..0] (out), N[8..0] (out), O[8..0] (out), P[8..0] (out), S[3..0] (in), Y[8..0] (in)

## M9_B2B1
designator U?
2x9-Bit Bus to 1x9-Bit Bus Multiplexer; SubClass: BnB1; PortSize: 9; PortStyle: Bus Version; ArchiveName: GENERIC; VHDLIB_SIM: GENERIC_LIB; Published: 29-Jan-2004; Publisher: Altium Limited; LastRevisionNo: 1.00.00; HelpURL: CR0118 FPGA Generic Library Guide.pdf#page=366; ComponentLink1URL: CR0137 FPGA Multiplexer Resource Usage.pdf#page=334; ComponentLink1Description: Core &Resource Usage; FunctionalClass: Multiplexer
pins: A[8..0] (in), B[8..0] (in), S0 (in), Y[8..0] (out)

## M9_B2B1E
designator U?
2x9-Bit Bus to 1x9-Bit Bus Multiplexer With Enable; SubClass: BnB1; Enable: High; PortSize: 9; PortStyle: Bus Version; ArchiveName: GENERIC; VHDLIB_SIM: GENERIC_LIB; Published: 29-Jan-2004; Publisher: Altium Limited; LastRevisionNo: 1.00.00; HelpURL: CR0118 FPGA Generic Library Guide.pdf#page=366; ComponentLink1URL: CR0137 FPGA Multiplexer Resource Usage.pdf#page=335; ComponentLink1Description: Core &Resource Usage; FunctionalClass: Multiplexer
pins: A[8..0] (in), B[8..0] (in), EI (in), S0 (in), Y[8..0] (out)

## M9_B4B1
designator U?
4x9-Bit Bus to 1x9-Bit Bus Multiplexer; SubClass: BnB1; PortSize: 9; PortStyle: Bus Version; ArchiveName: GENERIC; VHDLIB_SIM: GENERIC_LIB; Published: 29-Jan-2004; Publisher: Altium Limited; LastRevisionNo: 1.00.00; HelpURL: CR0118 FPGA Generic Library Guide.pdf#page=374; ComponentLink1URL: CR0137 FPGA Multiplexer Resource Usage.pdf#page=336; ComponentLink1Description: Core &Resource Usage; FunctionalClass: Multiplexer
pins: A[8..0] (in), B[8..0] (in), C[8..0] (in), D[8..0] (in), S0 (in), S1 (in), Y[8..0] (out)

## M9_B4B1_SB
designator U?
4x9-Bit Bus to 1x9-Bit Bus Multiplexer With Bus Version Select; SubClass: BnB1; BusBusSelect: True; PortSize: 9; ArchiveName: GENERIC; VHDLIB_SIM: GENERIC_LIB; Published: 31-May-2004; Publisher: Altium Limited; LastRevisionNo: 1.00.00; HelpURL: CR0118 FPGA Generic Library Guide.pdf#page=370; ComponentLink1URL: CR0137 FPGA Multiplexer Resource Usage.pdf#page=337; ComponentLink1Description: Core &Resource Usage; FunctionalClass: Multiplexer; PortStyle: Bus Version
pins: A[8..0] (in), B[8..0] (in), C[8..0] (in), D[8..0] (in), S[1..0] (in), Y[8..0] (out)

## M9_B4B1E
designator U?
4x9-Bit Bus to 1x9-Bit Bus Multiplexer With Enable; SubClass: BnB1; Enable: High; PortSize: 9; PortStyle: Bus Version; ArchiveName: GENERIC; VHDLIB_SIM: GENERIC_LIB; Published: 29-Jan-2004; Publisher: Altium Limited; LastRevisionNo: 1.00.00; HelpURL: CR0118 FPGA Generic Library Guide.pdf#page=374; ComponentLink1URL: CR0137 FPGA Multiplexer Resource Usage.pdf#page=338; ComponentLink1Description: Core &Resource Usage; FunctionalClass: Multiplexer
pins: A[8..0] (in), B[8..0] (in), C[8..0] (in), D[8..0] (in), EI (in), S0 (in), S1 (in), Y[8..0] (out)

## M9_B4B1E_SB
designator U?
4x9-Bit Bus to 1x9-Bit Bus Multiplexer With Enable With Bus Version Select; SubClass: BnB1; Enable: High; BusBusSelect: True; PortSize: 9; ArchiveName: GENERIC; VHDLIB_SIM: GENERIC_LIB; Published: 31-May-2004; Publisher: Altium Limited; LastRevisionNo: 1.00.00; HelpURL: CR0118 FPGA Generic Library Guide.pdf#page=374; ComponentLink1URL: CR0137 FPGA Multiplexer Resource Usage.pdf#page=339; ComponentLink1Description: Core &Resource Usage; FunctionalClass: Multiplexer; PortStyle: Bus Version
pins: A[8..0] (in), B[8..0] (in), C[8..0] (in), D[8..0] (in), EI (in), S[1..0] (in), Y[8..0] (out)

## M9_B8B1
designator U?
8x9-Bit Bus to 1x9-Bit Bus Multiplexer; SubClass: BnB1; PortSize: 9; PortStyle: Bus Version; ArchiveName: GENERIC; VHDLIB_SIM: GENERIC_LIB; Published: 29-Jan-2004; Publisher: Altium Limited; LastRevisionNo: 1.00.00; HelpURL: CR0118 FPGA Generic Library Guide.pdf#page=383; ComponentLink1URL: CR0137 FPGA Multiplexer Resource Usage.pdf#page=340; ComponentLink1Description: Core &Resource Usage; FunctionalClass: Multiplexer
pins: A[8..0] (in), B[8..0] (in), C[8..0] (in), D[8..0] (in), E[8..0] (in), F[8..0] (in), G[8..0] (in), H[8..0] (in), S0 (in), S1 (in), S2 (in), Y[8..0] (out)

## M9_B8B1_SB
designator U?
8x9-Bit Bus to 1x9-Bit Bus Multiplexer With Bus Version Select; SubClass: BnB1; BusBusSelect: True; PortSize: 9; ArchiveName: GENERIC; VHDLIB_SIM: GENERIC_LIB; Published: 31-May-2004; Publisher: Altium Limited; LastRevisionNo: 1.00.00; HelpURL: CR0118 FPGA Generic Library Guide.pdf#page=379; ComponentLink1URL: CR0137 FPGA Multiplexer Resource Usage.pdf#page=341; ComponentLink1Description: Core &Resource Usage; FunctionalClass: Multiplexer; PortStyle: Bus Version
pins: A[8..0] (in), B[8..0] (in), C[8..0] (in), D[8..0] (in), E[8..0] (in), F[8..0] (in), G[8..0] (in), H[8..0] (in), S[2..0] (in), Y[8..0] (out)

## M9_B8B1E
designator U?
8x9-Bit Bus to 1x9-Bit Bus Multiplexer With Enable; SubClass: BnB1; Enable: High; PortSize: 9; PortStyle: Bus Version; ArchiveName: GENERIC; VHDLIB_SIM: GENERIC_LIB; Published: 29-Jan-2004; Publisher: Altium Limited; LastRevisionNo: 1.00.00; HelpURL: CR0118 FPGA Generic Library Guide.pdf#page=383; ComponentLink1URL: CR0137 FPGA Multiplexer Resource Usage.pdf#page=342; ComponentLink1Description: Core &Resource Usage; FunctionalClass: Multiplexer
pins: A[8..0] (in), B[8..0] (in), C[8..0] (in), D[8..0] (in), E[8..0] (in), EI (in), F[8..0] (in), G[8..0] (in), H[8..0] (in), S0 (in), S1 (in), S2 (in), Y[8..0] (out)

## M9_B8B1E_SB
designator U?
8x9-Bit Bus to 1x9-Bit Bus Multiplexer With Enable With Bus Version Select; SubClass: BnB1; Enable: High; BusBusSelect: True; PortSize: 9; ArchiveName: GENERIC; VHDLIB_SIM: GENERIC_LIB; Published: 31-May-2004; Publisher: Altium Limited; LastRevisionNo: 1.00.00; HelpURL: CR0118 FPGA Generic Library Guide.pdf#page=383; ComponentLink1URL: CR0137 FPGA Multiplexer Resource Usage.pdf#page=343; ComponentLink1Description: Core &Resource Usage; FunctionalClass: Multiplexer; PortStyle: Bus Version
pins: A[8..0] (in), B[8..0] (in), C[8..0] (in), D[8..0] (in), E[8..0] (in), EI (in), F[8..0] (in), G[8..0] (in), H[8..0] (in), S[2..0] (in), Y[8..0] (out)

## M9_B16B1
designator U?
16x9-Bit Bus to 1x9-Bit Bus Multiplexer; SubClass: BnB1; PortSize: 9; PortStyle: Bus Version; ArchiveName: GENERIC; VHDLIB_SIM: GENERIC_LIB; Published: 29-Jan-2004; Publisher: Altium Limited; LastRevisionNo: 1.00.00; HelpURL: CR0118 FPGA Generic Library Guide.pdf#page=388; ComponentLink1URL: CR0137 FPGA Multiplexer Resource Usage.pdf#page=344; ComponentLink1Description: Core &Resource Usage; FunctionalClass: Multiplexer
pins: A[8..0] (in), B[8..0] (in), C[8..0] (in), D[8..0] (in), E[8..0] (in), F[8..0] (in), G[8..0] (in), H[8..0] (in), I[8..0] (in), J[8..0] (in), K[8..0] (in), L[8..0] (in), M[8..0] (in), N[8..0] (in), O[8..0] (in), P[8..0] (in), S0 (in), S1 (in), S2 (in), S3 (in), Y[8..0] (out)

## M9_B16B1_SB
designator U?
16x9-Bit Bus to 1x9-Bit Bus Multiplexer With Bus Version Select; SubClass: BnB1; BusBusSelect: True; PortSize: 9; ArchiveName: GENERIC; VHDLIB_SIM: GENERIC_LIB; Published: 29-Jan-2004; Publisher: Altium Limited; LastRevisionNo: 1.00.00; HelpURL: CR0118 FPGA Generic Library Guide.pdf#page=388; ComponentLink1URL: CR0137 FPGA Multiplexer Resource Usage.pdf#page=345; ComponentLink1Description: Core &Resource Usage; FunctionalClass: Multiplexer; PortStyle: Bus Version
pins: A[8..0] (in), B[8..0] (in), C[8..0] (in), D[8..0] (in), E[8..0] (in), F[8..0] (in), G[8..0] (in), H[8..0] (in), I[8..0] (in), J[8..0] (in), K[8..0] (in), L[8..0] (in), M[8..0] (in), N[8..0] (in), O[8..0] (in), P[8..0] (in), S[3..0] (in), Y[8..0] (out)

## M9_B16B1E
designator U?
16x9-Bit Bus to 1x9-Bit Bus Multiplexer With Enable; SubClass: BnB1; Enable: High; PortSize: 9; PortStyle: Bus Version; ArchiveName: GENERIC; VHDLIB_SIM: GENERIC_LIB; Published: 29-Jan-2004; Publisher: Altium Limited; LastRevisionNo: 1.00.00; HelpURL: CR0118 FPGA Generic Library Guide.pdf#page=393; ComponentLink1URL: CR0137 FPGA Multiplexer Resource Usage.pdf#page=346; ComponentLink1Description: Core &Resource Usage; FunctionalClass: Multiplexer
pins: A[8..0] (in), B[8..0] (in), C[8..0] (in), D[8..0] (in), E[8..0] (in), EI (in), F[8..0] (in), G[8..0] (in), H[8..0] (in), I[8..0] (in), J[8..0] (in), K[8..0] (in), L[8..0] (in), M[8..0] (in), N[8..0] (in), O[8..0] (in), P[8..0] (in), S0 (in), S1 (in), S2 (in), S3 (in), Y[8..0] (out)

## M9_B16B1E_SB
designator U?
16x9-Bit Bus to 1x9-Bit Bus Multiplexer With Enable and Bus Version Select; SubClass: BnB1; Enable: High; BusBusSelect: True; PortSize: 9; ArchiveName: GENERIC; VHDLIB_SIM: GENERIC_LIB; Published: 29-Jan-2004; Publisher: Altium Limited; LastRevisionNo: 1.00.00; HelpURL: CR0118 FPGA Generic Library Guide.pdf#page=393; ComponentLink1URL: CR0137 FPGA Multiplexer Resource Usage.pdf#page=347; ComponentLink1Description: Core &Resource Usage; FunctionalClass: Multiplexer; PortStyle: Bus Version
pins: A[8..0] (in), B[8..0] (in), C[8..0] (in), D[8..0] (in), E[8..0] (in), EI (in), F[8..0] (in), G[8..0] (in), H[8..0] (in), I[8..0] (in), J[8..0] (in), K[8..0] (in), L[8..0] (in), M[8..0] (in), N[8..0] (in), O[8..0] (in), P[8..0] (in), S[3..0] (in), Y[8..0] (out)

## M10_B1B2
designator U?
1x10-Bit Bus to 2x10-Bit Bus Multiplexer (Demultiplex); SubClass: B1Bn; PortSize: 10; PortStyle: Bus Version; ArchiveName: GENERIC; VHDLIB_SIM: GENERIC_LIB; Published: 29-Jan-2004; Publisher: Altium Limited; LastRevisionNo: 1.00.00; HelpURL: CR0118 FPGA Generic Library Guide.pdf#page=328; ComponentLink1URL: CR0137 FPGA Multiplexer Resource Usage.pdf#page=348; ComponentLink1Description: Core &Resource Usage; FunctionalClass: Multiplexer
pins: A[9..0] (out), B[9..0] (out), S0 (in), Y[9..0] (in)

## M10_B1B2E
designator U?
1x10-Bit Bus to 2x10-Bit Bus Multiplexer (Demultiplex) With Enable; SubClass: B1Bn; Enable: High; PortSize: 10; PortStyle: Bus Version; ArchiveName: GENERIC; VHDLIB_SIM: GENERIC_LIB; Published: 29-Jan-2004; Publisher: Altium Limited; LastRevisionNo: 1.00.00; HelpURL: CR0118 FPGA Generic Library Guide.pdf#page=331; ComponentLink1URL: CR0137 FPGA Multiplexer Resource Usage.pdf#page=349; ComponentLink1Description: Core &Resource Usage; FunctionalClass: Multiplexer
pins: A[9..0] (out), B[9..0] (out), EI (in), S0 (in), Y[9..0] (in)

## M10_B1B4
designator U?
1x10-Bit Bus to 4x10-Bit Bus Multiplexer (Demultiplex); SubClass: B1Bn; PortSize: 10; PortStyle: Bus Version; ArchiveName: GENERIC; VHDLIB_SIM: GENERIC_LIB; Published: 29-Jan-2004; Publisher: Altium Limited; LastRevisionNo: 1.00.00; HelpURL: CR0118 FPGA Generic Library Guide.pdf#page=335; ComponentLink1URL: CR0137 FPGA Multiplexer Resource Usage.pdf#page=350; ComponentLink1Description: Core &Resource Usage; FunctionalClass: Multiplexer
pins: A[9..0] (out), B[9..0] (out), C[9..0] (out), D[9..0] (out), S0 (in), S1 (in), Y[9..0] (in)

## M10_B1B4_SB
designator U?
1x10-Bit Bus to 4x10-Bit Bus Multiplexer (Demultiplex) With Bus Version Select; SubClass: B1Bn; BusBusSelect: True; PortSize: 10; ArchiveName: GENERIC; VHDLIB_SIM: GENERIC_LIB; Published: 31-May-2004; Publisher: Altium Limited; LastRevisionNo: 1.00.00; HelpURL: CR0118 FPGA Generic Library Guide.pdf#page=335; ComponentLink1URL: CR0137 FPGA Multiplexer Resource Usage.pdf#page=351; ComponentLink1Description: Core &Resource Usage; FunctionalClass: Multiplexer; PortStyle: Bus Version
pins: A[9..0] (out), B[9..0] (out), C[9..0] (out), D[9..0] (out), S[1..0] (in), Y[9..0] (in)

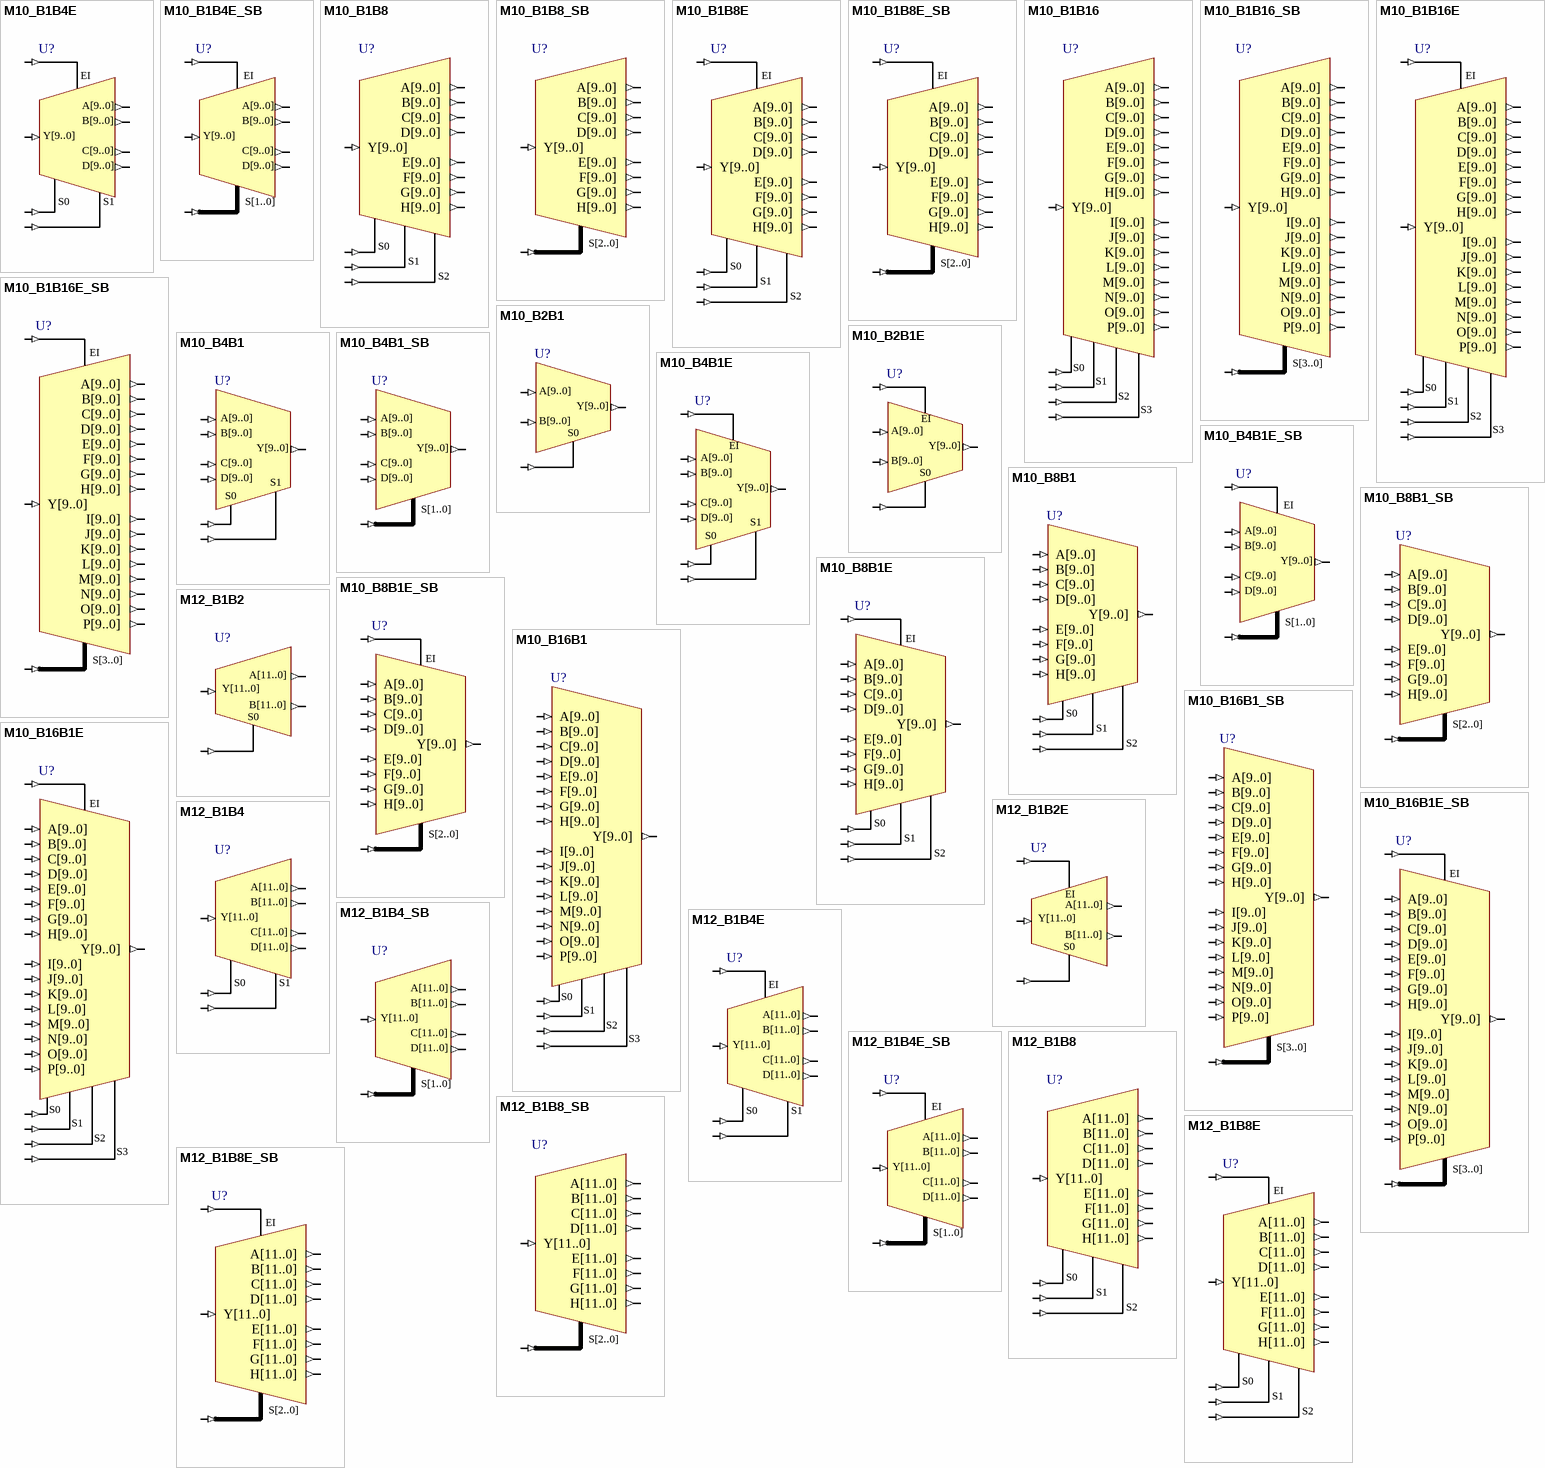
[diagram p30: symbols M10_B1B4E to M12_B1B8E_SB]

## M10_B1B4E
designator U?
1x10-Bit Bus to 4x10-Bit Bus Multiplexer (Demultiplex) With Enable; SubClass: B1Bn; Enable: High; PortSize: 10; PortStyle: Bus Version; ArchiveName: GENERIC; VHDLIB_SIM: GENERIC_LIB; Published: 29-Jan-2004; Publisher: Altium Limited; LastRevisionNo: 1.00.00; HelpURL: CR0118 FPGA Generic Library Guide.pdf#page=339; ComponentLink1URL: CR0137 FPGA Multiplexer Resource Usage.pdf#page=352; ComponentLink1Description: Core &Resource Usage; FunctionalClass: Multiplexer
pins: A[9..0] (out), B[9..0] (out), C[9..0] (out), D[9..0] (out), EI (in), S0 (in), S1 (in), Y[9..0] (in)

## M10_B1B4E_SB
designator U?
1x10-Bit Bus to 4x10-Bit Bus Multiplexer (Demultiplex) With Enable With Bus Version Select; SubClass: B1Bn; Enable: High; BusBusSelect: True; PortSize: 10; ArchiveName: GENERIC; VHDLIB_SIM: GENERIC_LIB; Published: 31-May-2004; Publisher: Altium Limited; LastRevisionNo: 1.00.00; HelpURL: CR0118 FPGA Generic Library Guide.pdf#page=339; ComponentLink1URL: CR0137 FPGA Multiplexer Resource Usage.pdf#page=353; ComponentLink1Description: Core &Resource Usage; FunctionalClass: Multiplexer; PortStyle: Bus Version
pins: A[9..0] (out), B[9..0] (out), C[9..0] (out), D[9..0] (out), EI (in), S[1..0] (in), Y[9..0] (in)

## M10_B1B8
designator U?
1x10-Bit Bus to 8x10-Bit Bus Multiplexer (Demultiplex); SubClass: B1Bn; PortSize: 10; PortStyle: Bus Version; ArchiveName: GENERIC; VHDLIB_SIM: GENERIC_LIB; Published: 29-Jan-2004; Publisher: Altium Limited; LastRevisionNo: 1.00.00; HelpURL: CR0118 FPGA Generic Library Guide.pdf#page=345; ComponentLink1URL: CR0137 FPGA Multiplexer Resource Usage.pdf#page=354; ComponentLink1Description: Core &Resource Usage; FunctionalClass: Multiplexer
pins: A[9..0] (out), B[9..0] (out), C[9..0] (out), D[9..0] (out), E[9..0] (out), F[9..0] (out), G[9..0] (out), H[9..0] (out), S0 (in), S1 (in), S2 (in), Y[9..0] (in)

## M10_B1B8_SB
designator U?
1x10-Bit Bus to 8x10-Bit Bus Multiplexer (Demultiplex) With Bus Version Select; SubClass: B1Bn; BusBusSelect: True; PortSize: 10; ArchiveName: GENERIC; VHDLIB_SIM: GENERIC_LIB; Published: 31-May-2004; Publisher: Altium Limited; LastRevisionNo: 1.00.00; HelpURL: CR0118 FPGA Generic Library Guide.pdf#page=345; ComponentLink1URL: CR0137 FPGA Multiplexer Resource Usage.pdf#page=355; ComponentLink1Description: Core &Resource Usage; FunctionalClass: Multiplexer; PortStyle: Bus Version
pins: A[9..0] (out), B[9..0] (out), C[9..0] (out), D[9..0] (out), E[9..0] (out), F[9..0] (out), G[9..0] (out), H[9..0] (out), S[2..0] (in), Y[9..0] (in)

## M10_B1B8E
designator U?
1x10-Bit Bus to 8x10-Bit Bus Multiplexer (Demultiplex) With Enable; SubClass: B1Bn; Enable: High; PortSize: 10; PortStyle: Bus Version; ArchiveName: GENERIC; VHDLIB_SIM: GENERIC_LIB; Published: 29-Jan-2004; Publisher: Altium Limited; LastRevisionNo: 1.00.00; HelpURL: CR0118 FPGA Generic Library Guide.pdf#page=350; ComponentLink1URL: CR0137 FPGA Multiplexer Resource Usage.pdf#page=356; ComponentLink1Description: Core &Resource Usage; FunctionalClass: Multiplexer
pins: A[9..0] (out), B[9..0] (out), C[9..0] (out), D[9..0] (out), E[9..0] (out), EI (in), F[9..0] (out), G[9..0] (out), H[9..0] (out), S0 (in), S1 (in), S2 (in), Y[9..0] (in)

## M10_B1B8E_SB
designator U?
1x10-Bit Bus to 8x10-Bit Bus Multiplexer (Demultiplex) With Enable With Bus Version Select; SubClass: B1Bn; Enable: High; BusBusSelect: True; PortSize: 10; ArchiveName: GENERIC; VHDLIB_SIM: GENERIC_LIB; Published: 31-May-2004; Publisher: Altium Limited; LastRevisionNo: 1.00.00; HelpURL: CR0118 FPGA Generic Library Guide.pdf#page=350; ComponentLink1URL: CR0137 FPGA Multiplexer Resource Usage.pdf#page=357; ComponentLink1Description: Core &Resource Usage; FunctionalClass: Multiplexer; PortStyle: Bus Version
pins: A[9..0] (out), B[9..0] (out), C[9..0] (out), D[9..0] (out), E[9..0] (out), EI (in), F[9..0] (out), G[9..0] (out), H[9..0] (out), S[2..0] (in), Y[9..0] (in)

## M10_B1B16
designator U?
1x10-Bit Bus to 16x10-Bit Bus Multiplexer (Demultiplex); SubClass: B1Bn; PortSize: 10; PortStyle: Bus Version; ArchiveName: GENERIC; VHDLIB_SIM: GENERIC_LIB; Published: 29-Jan-2004; Publisher: Altium Limited; LastRevisionNo: 1.00.00; HelpURL: CR0118 FPGA Generic Library Guide.pdf#page=355; ComponentLink1URL: CR0137 FPGA Multiplexer Resource Usage.pdf#page=358; ComponentLink1Description: Core &Resource Usage; FunctionalClass: Multiplexer
pins: A[9..0] (out), B[9..0] (out), C[9..0] (out), D[9..0] (out), E[9..0] (out), F[9..0] (out), G[9..0] (out), H[9..0] (out), I[9..0] (out), J[9..0] (out), K[9..0] (out), L[9..0] (out), M[9..0] (out), N[9..0] (out), O[9..0] (out), P[9..0] (out), S0 (in), S1 (in), S2 (in), S3 (in), Y[9..0] (in)

## M10_B1B16_SB
designator U?
1x10-Bit Bus to 16x10-Bit Bus Multiplexer (Demultiplex) With Bus Version Select; SubClass: B1Bn; BusBusSelect: True; PortSize: 10; ArchiveName: GENERIC; VHDLIB_SIM: GENERIC_LIB; Published: 29-Jan-2004; Publisher: Altium Limited; LastRevisionNo: 1.00.00; HelpURL: CR0118 FPGA Generic Library Guide.pdf#page=355; ComponentLink1URL: CR0137 FPGA Multiplexer Resource Usage.pdf#page=359; ComponentLink1Description: Core &Resource Usage; FunctionalClass: Multiplexer; PortStyle: Bus Version
pins: A[9..0] (out), B[9..0] (out), C[9..0] (out), D[9..0] (out), E[9..0] (out), F[9..0] (out), G[9..0] (out), H[9..0] (out), I[9..0] (out), J[9..0] (out), K[9..0] (out), L[9..0] (out), M[9..0] (out), N[9..0] (out), O[9..0] (out), P[9..0] (out), S[3..0] (in), Y[9..0] (in)

## M10_B1B16E
designator U?
1x10-Bit Bus to 16x10-Bit Bus Multiplexer (Demultiplex) With Enable; SubClass: B1Bn; Enable: High; PortSize: 10; PortStyle: Bus Version; ArchiveName: GENERIC; VHDLIB_SIM: GENERIC_LIB; Published: 29-Jan-2004; Publisher: Altium Limited; LastRevisionNo: 1.00.00; HelpURL: CR0118 FPGA Generic Library Guide.pdf#page=360; ComponentLink1URL: CR0137 FPGA Multiplexer Resource Usage.pdf#page=360; ComponentLink1Description: Core &Resource Usage; FunctionalClass: Multiplexer
pins: A[9..0] (out), B[9..0] (out), C[9..0] (out), D[9..0] (out), E[9..0] (out), EI (in), F[9..0] (out), G[9..0] (out), H[9..0] (out), I[9..0] (out), J[9..0] (out), K[9..0] (out), L[9..0] (out), M[9..0] (out), N[9..0] (out), O[9..0] (out), P[9..0] (out), S0 (in), S1 (in), S2 (in), S3 (in), Y[9..0] (in)

## M10_B1B16E_SB
designator U?
1x10-Bit Bus to 16x10-Bit Bus Multiplexer (Demultiplex) With Enable and Bus Version Select; SubClass: B1Bn; Enable: High; BusBusSelect: True; PortSize: 10; ArchiveName: GENERIC; VHDLIB_SIM: GENERIC_LIB; Published: 29-Jan-2004; Publisher: Altium Limited; LastRevisionNo: 1.00.00; HelpURL: CR0118 FPGA Generic Library Guide.pdf#page=355; ComponentLink1URL: CR0137 FPGA Multiplexer Resource Usage.pdf#page=361; ComponentLink1Description: Core &Resource Usage; FunctionalClass: Multiplexer; PortStyle: Bus Version
pins: A[9..0] (out), B[9..0] (out), C[9..0] (out), D[9..0] (out), E[9..0] (out), EI (in), F[9..0] (out), G[9..0] (out), H[9..0] (out), I[9..0] (out), J[9..0] (out), K[9..0] (out), L[9..0] (out), M[9..0] (out), N[9..0] (out), O[9..0] (out), P[9..0] (out), S[3..0] (in), Y[9..0] (in)

## M10_B2B1
designator U?
2x10-Bit Bus to 1x10-Bit Bus Multiplexer; SubClass: BnB1; PortSize: 10; ArchiveName: GENERIC; VHDLIB_SIM: GENERIC_LIB; Published: 29-Jan-2004; Publisher: Altium Limited; LastRevisionNo: 1.00.00; HelpURL: CR0118 FPGA Generic Library Guide.pdf#page=366; ComponentLink1URL: CR0137 FPGA Multiplexer Resource Usage.pdf#page=362; ComponentLink1Description: Core &Resource Usage; FunctionalClass: Multiplexer
pins: A[9..0] (in), B[9..0] (in), S0 (in), Y[9..0] (out)

## M10_B2B1E
designator U?
2x10-Bit Bus to 1x10-Bit Bus Multiplexer With Enable; SubClass: BnB1; Enable: High; PortSize: 10; ArchiveName: GENERIC; VHDLIB_SIM: GENERIC_LIB; Published: 29-Jan-2004; Publisher: Altium Limited; LastRevisionNo: 1.00.00; HelpURL: CR0118 FPGA Generic Library Guide.pdf#page=366; ComponentLink1URL: CR0137 FPGA Multiplexer Resource Usage.pdf#page=363; ComponentLink1Description: Core &Resource Usage; FunctionalClass: Multiplexer
pins: A[9..0] (in), B[9..0] (in), EI (in), S0 (in), Y[9..0] (out)

## M10_B4B1
designator U?
4x10-Bit Bus to 1x10-Bit Bus Multiplexer; SubClass: BnB1; PortSize: 10; ArchiveName: GENERIC; VHDLIB_SIM: GENERIC_LIB; Published: 29-Jan-2004; Publisher: Altium Limited; LastRevisionNo: 1.00.00; HelpURL: CR0118 FPGA Generic Library Guide.pdf#page=374; ComponentLink1URL: CR0137 FPGA Multiplexer Resource Usage.pdf#page=364; ComponentLink1Description: Core &Resource Usage; FunctionalClass: Multiplexer
pins: A[9..0] (in), B[9..0] (in), C[9..0] (in), D[9..0] (in), S0 (in), S1 (in), Y[9..0] (out)